# Altium footprint library TJA1040.PcbLib: 1 footprints
Each footprint in its own frame and in the unit in brackets; x right, y up, seen from the top. Pads: shape width x height; smd on the part's side, far side on the other; paste and mask are expansions set on the pad; w line width, h text height; cw(c..) or ccw(c..) is an arc to the next point about the centre after c.
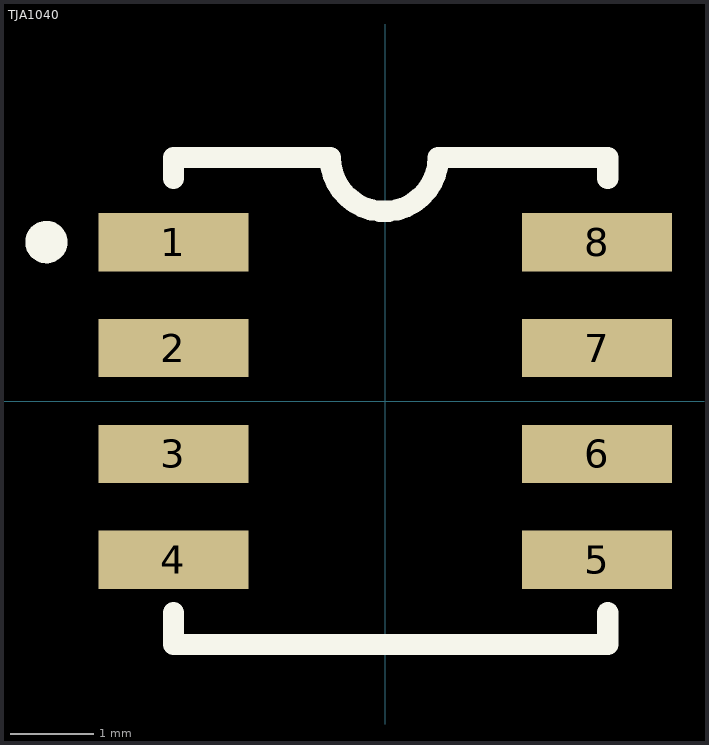
[diagram p0: the footprint, top view; thin cyan lines are the x and y axes]

## TJA1040 [mm] "CAN收发器"
pads (8):
  rect 1.8x0.7 smd: 1(-2.54,1.905) 2(-2.54,0.635) 3(-2.54,-0.635) 4(-2.54,-1.905) 5(2.54,-1.905) 6(2.54,-0.635) 7(2.54,0.635) 8(2.54,1.905)
Top Overlay:
  circle w0.254: c-4.064,1.905 r0.127
  lines w0.254: -2.54,-2.54 -2.54,-2.921 2.667,-2.921 2.667,-2.54 ; -2.54,2.667 -2.54,2.921 -0.66,2.921 ccw(c-0.013,2.921) 0.635,2.921 2.667,2.921 2.667,2.667